# Altium footprint library MBRS360T3.PcbLib: 1 footprints
Each footprint in its own frame and in the unit in brackets; x right, y up, seen from the top. Pads: shape width x height; smd on the part's side, far side on the other; paste and mask are expansions set on the pad; w line width, h text height; cw(c..) or ccw(c..) is an arc to the next point about the centre after c.
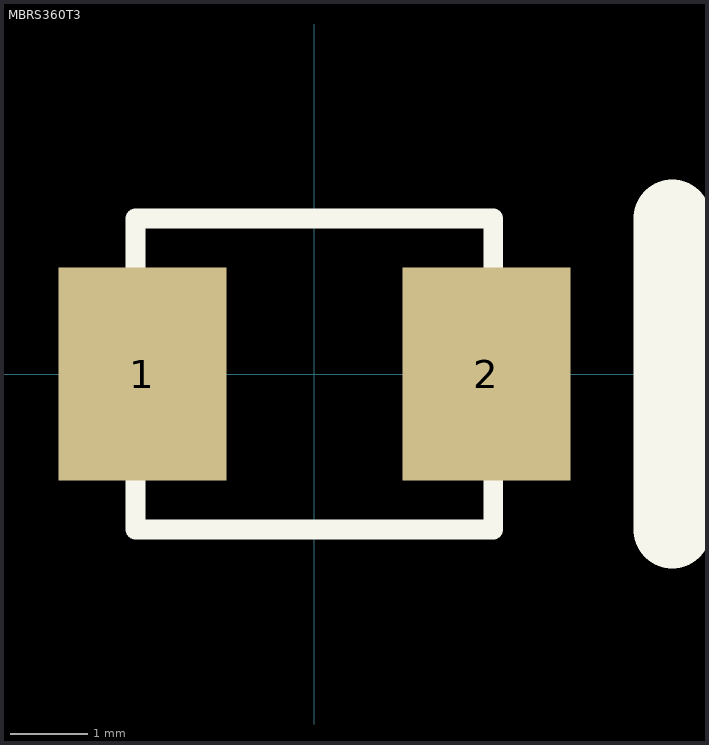
[diagram p0: the footprint, top view; thin cyan lines are the x and y axes]

## MBRS360T3 [mil]
pads (2):
  rect 85x107.99 smd: 1(-87.01,0) 2(87.01,0)
Top Overlay:
  lines w10: -90.55,-78.74 90.55,-78.74 90.55,78.74 -90.55,78.74 -90.55,-78.74
  lines w39.37: 181.1,-78.74 181.1,78.74
3D body "SMB_STM.step": height 104.09, standoff -19.5, extent -110,-77.99 110,77.99